# Altium footprint library Displays.PcbLib: 1 footprints
Each footprint in its own frame and in the unit in brackets; x right, y up, seen from the top. Pads: shape width x height; smd on the part's side, far side on the other; paste and mask are expansions set on the pad; w line width, h text height; cw(c..) or ccw(c..) is an arc to the next point about the centre after c.
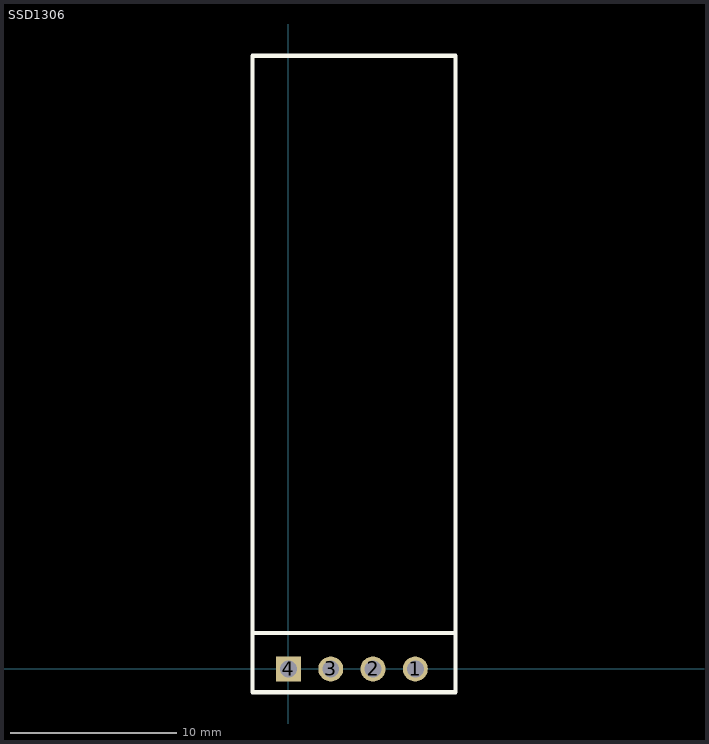
[diagram p0: the footprint, top view; thin cyan lines are the x and y axes]

## SSD1306 [mm] "Display OLED, I2C"
pads (4):
  round 1.5 hole 1.016: 1(7.62,0) 2(5.08,0) 3(2.54,0)
  rect 1.5x1.5 hole 1.016: 4(0,0)
Top Overlay:
  lines w0.254: -2.159,2.159 10.033,2.159 ; -2.159,-1.397 -2.159,36.83 10.033,36.83 10.033,-1.397 -2.159,-1.397
3D body "128x32-OLED.STEP": height 5.84, standoff -6.1, extent -2.063,-1.27 9.937,36.73